# Altium footprint library WPL6530H150MT.PcbLib: 1 footprints
Each footprint in its own frame and in the unit in brackets; x right, y up, seen from the top. Pads: shape width x height; smd on the part's side, far side on the other; paste and mask are expansions set on the pad; w line width, h text height; cw(c..) or ccw(c..) is an arc to the next point about the centre after c.
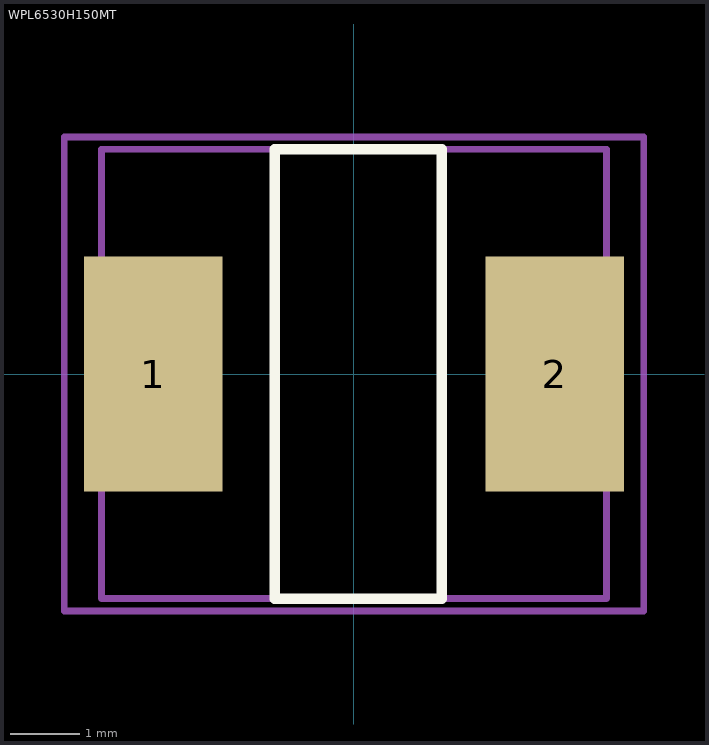
[diagram p0: the footprint, top view; thin cyan lines are the x and y axes]

## WPL6530H150MT [mm]
pads (2):
  rect 2x3.4 smd: 1(-2.902,0) 2(2.902,0)
Top Overlay:
  lines w0.152: -1.143,-3.25 -1.143,3.25 1.27,3.25 1.27,-3.25 -1.143,-3.25
Mechanical 13:
  lines w0.1: -3.65,-3.25 -3.65,3.25 3.65,3.25 3.65,-3.25 -3.65,-3.25
Mechanical 15:
  lines w0.1: -4.191,-3.429 4.191,-3.429 4.191,3.429 -4.191,3.429 -4.191,-3.429
3D body: height 3.1, standoff -0.02, extent -3.65,-3.25 3.65,3.25